# Altium integrated library Altium Database Library V2.IntLib: 412 symbols (part 15 of 18)

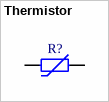
[diagram p322: symbol Thermistor]

## Thermistor
designator R?
SMT Resistor
pins: 1, 2


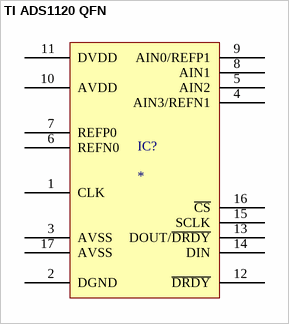
[diagram p323: symbol TI ADS1120 QFN]

## TI ADS1120 QFN
designator IC?
pins: 1 CLK, 2 DGND, 3 AVSS, 4 AIN3/REFN1, 5 AIN2, 6 REFN0, 7 REFP0, 8 AIN1, 9 AIN0/REFP1, 10 AVDD, 11 DVDD, 12 ~{DRDY}, 13 DOUT/~{DRDY}, 14 DIN, 15 SCLK, 16 ~{CS}, 17 AVSS


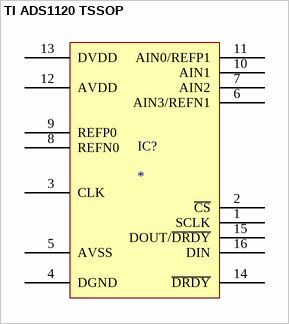
[diagram p324: symbol TI ADS1120 TSSOP]

## TI ADS1120 TSSOP
designator IC?
pins: 1 SCLK, 2 ~{CS}, 3 CLK, 4 DGND, 5 AVSS, 6 AIN3/REFN1, 7 AIN2, 8 REFN0, 9 REFP0, 10 AIN1, 11 AIN0/REFP1, 12 AVDD, 13 DVDD, 14 ~{DRDY}, 15 DOUT/~{DRDY}, 16 DIN


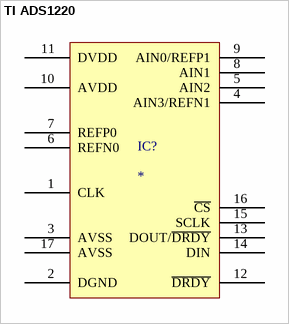
[diagram p325: symbol TI ADS1220]

## TI ADS1220
designator IC?
pins: 1 CLK, 2 DGND, 3 AVSS, 4 AIN3/REFN1, 5 AIN2, 6 REFN0, 7 REFP0, 8 AIN1, 9 AIN0/REFP1, 10 AVDD, 11 DVDD, 12 ~{DRDY}, 13 DOUT/~{DRDY}, 14 DIN, 15 SCLK, 16 ~{CS}, 17 AVSS


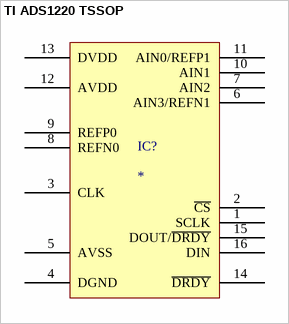
[diagram p326: symbol TI ADS1220 TSSOP]

## TI ADS1220 TSSOP
designator IC?
pins: 1 SCLK, 2 ~{CS}, 3 CLK, 4 DGND, 5 AVSS, 6 AIN3/REFN1, 7 AIN2, 8 REFN0, 9 REFP0, 10 AIN1, 11 AIN0/REFP1, 12 AVDD, 13 DVDD, 14 ~{DRDY}, 15 DOUT/~{DRDY}, 16 DIN


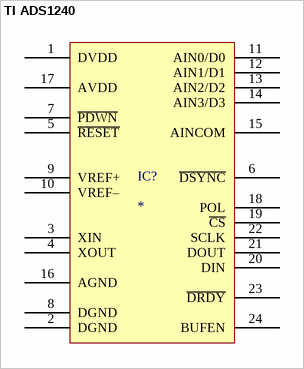
[diagram p327: symbol TI ADS1240]

## TI ADS1240
designator IC?
pins: 1 DVDD, 2 DGND, 3 XIN, 4 XOUT, 5 ~{RESET}, 6 ~{DSYNC}, 7 ~{PDWN}, 8 DGND, 9 VREF+, 10 VREF–, 11 AIN0/D0, 12 AIN1/D1, 13 AIN2/D2, 14 AIN3/D3, 15 AINCOM, 16 AGND, 17 AVDD, 18 POL, 19 ~{CS}, 20 DIN, 21 DOUT, 22 SCLK, 23 ~{DRDY}, 24 BUFEN


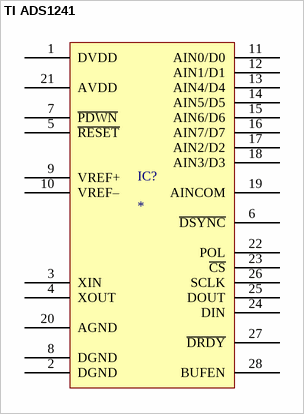
[diagram p328: symbol TI ADS1241]

## TI ADS1241
designator IC?
pins: 1 DVDD, 2 DGND, 3 XIN, 4 XOUT, 5 ~{RESET}, 6 ~{DSYNC}, 7 ~{PDWN}, 8 DGND, 9 VREF+, 10 VREF–, 11 AIN0/D0, 12 AIN1/D1, 13 AIN4/D4, 14 AIN5/D5, 15 AIN6/D6, 16 AIN7/D7, 17 AIN2/D2, 18 AIN3/D3, 19 AINCOM, 20 AGND, 21 AVDD, 22 POL, 23 ~{CS}, 24 DIN, 25 DOUT, 26 SCLK, 27 ~{DRDY}, 28 BUFEN


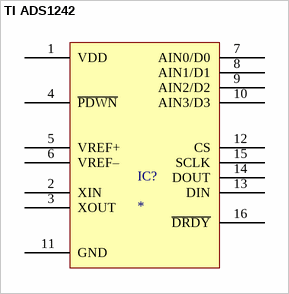
[diagram p329: symbol TI ADS1242]

## TI ADS1242
designator IC?
pins: 1 VDD, 2 XIN, 3 XOUT, 4 ~{PDWN}, 5 VREF+, 6 VREF–, 7 AIN0/D0, 8 AIN1/D1, 9 AIN2/D2, 10 AIN3/D3, 11 GND, 12 CS, 13 DIN, 14 DOUT, 15 SCLK, 16 ~{DRDY}


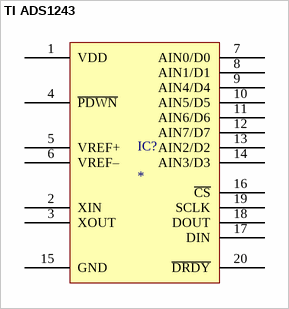
[diagram p330: symbol TI ADS1243]

## TI ADS1243
designator IC?
pins: 1 VDD, 2 XIN, 3 XOUT, 4 ~{PDWN}, 5 VREF+, 6 VREF–, 7 AIN0/D0, 8 AIN1/D1, 9 AIN4/D4, 10 AIN5/D5, 11 AIN6/D6, 12 AIN7/D7, 13 AIN2/D2, 14 AIN3/D3, 15 GND, 16 ~{CS}, 17 DIN, 18 DOUT, 19 SCLK, 20 ~{DRDY}


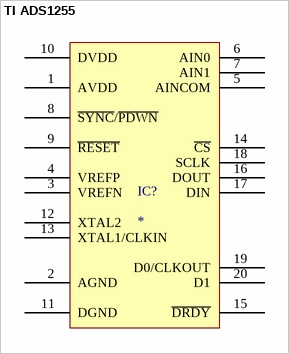
[diagram p331: symbol TI ADS1255]

## TI ADS1255
designator IC?
pins: 1 AVDD, 2 AGND, 3 VREFN, 4 VREFP, 5 AINCOM, 6 AIN0, 7 AIN1, 8 ~{SYNC}/~{PDWN}, 9 ~{RESET}, 10 DVDD, 11 DGND, 12 XTAL2, 13 XTAL1/CLKIN, 14 ~{CS}, 15 ~{DRDY}, 16 DOUT, 17 DIN, 18 SCLK, 19 D0/CLKOUT, 20 D1


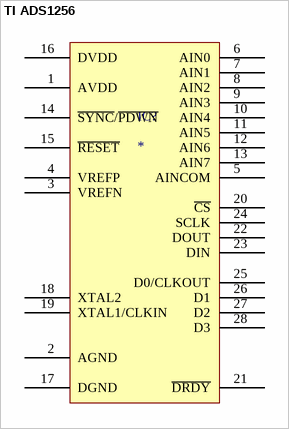
[diagram p332: symbol TI ADS1256]

## TI ADS1256
designator IC?
pins: 1 AVDD, 2 AGND, 3 VREFN, 4 VREFP, 5 AINCOM, 6 AIN0, 7 AIN1, 8 AIN2, 9 AIN3, 10 AIN4, 11 AIN5, 12 AIN6, 13 AIN7, 14 ~{SYNC}/~{PDWN}, 15 ~{RESET}, 16 DVDD, 17 DGND, 18 XTAL2, 19 XTAL1/CLKIN, 20 ~{CS}, 21 ~{DRDY}, 22 DOUT, 23 DIN, 24 SCLK, 25 D0/CLKOUT, 26 D1, 27 D2, 28 D3


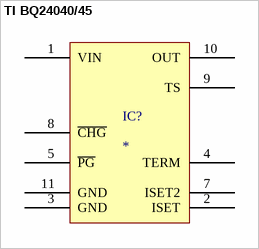
[diagram p333: symbol TI BQ24040/45]

## TI BQ24040/45
designator IC?
pins: 1 VIN, 2 ISET, 3 GND, 4 TERM, 5 ~{PG}, 7 ISET2, 8 ~{CHG}, 9 TS, 10 OUT, 11 GND


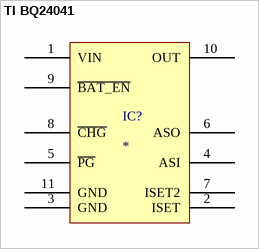
[diagram p334: symbol TI BQ24041]

## TI BQ24041
designator IC?
pins: 1 VIN, 2 ISET, 3 GND, 4 ASI, 5 ~{PG}, 6 ASO, 7 ISET2, 8 ~{CHG}, 9 ~{BAT_EN}, 10 OUT, 11 GND


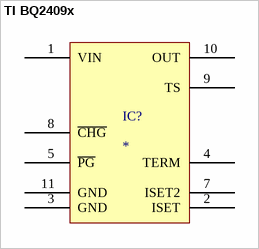
[diagram p335: symbol TI BQ2409x]

## TI BQ2409x
designator IC?
pins: 1 VIN, 2 ISET, 3 GND, 4 TERM, 5 ~{PG}, 7 ISET2, 8 ~{CHG}, 9 TS, 10 OUT, 11 GND


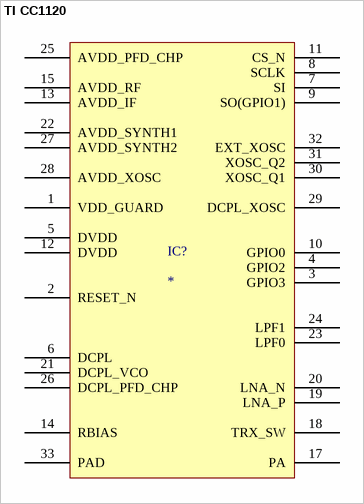
[diagram p336: symbol TI CC1120]

## TI CC1120
designator IC?
pins: 1 VDD_GUARD, 2 RESET_N, 3 GPIO3, 4 GPIO2, 5 DVDD, 6 DCPL, 7 SI, 8 SCLK, 9 SO(GPIO1), 10 GPIO0, 11 CS_N, 12 DVDD, 13 AVDD_IF, 14 RBIAS, 15 AVDD_RF, 17 PA, 18 TRX_SW, 19 LNA_P, 20 LNA_N, 21 DCPL_VCO, 22 AVDD_SYNTH1, 23 LPF0, 24 LPF1, 25 AVDD_PFD_CHP, 26 DCPL_PFD_CHP, 27 AVDD_SYNTH2, 28 AVDD_XOSC, 29 DCPL_XOSC, 30 XOSC_Q1, 31 XOSC_Q2, 32 EXT_XOSC, 33 PAD


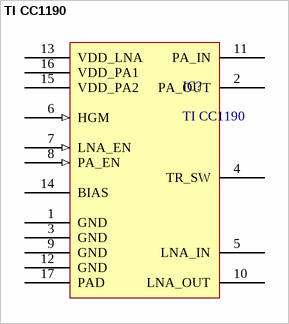
[diagram p337: symbol TI CC1190]

## TI CC1190
designator IC?
850-950MHz RF Front end
pins: 1 GND "Desc1", 2 PA_OUT "Desc1", 3 GND "Desc1", 4 TR_SW "Desc1", 5 LNA_IN "Desc1", 6 HGM (in) "Desc1", 7 LNA_EN (in) "Desc1", 8 PA_EN (in) "Desc1", 9 GND "Desc1", 10 LNA_OUT "Desc1", 11 PA_IN "Desc1", 12 GND "Desc1", 13 VDD_LNA "Desc1", 14 BIAS "Desc1", 15 VDD_PA2 "Desc1", 16 VDD_PA1 "Desc1", 17 PAD "Desc1"


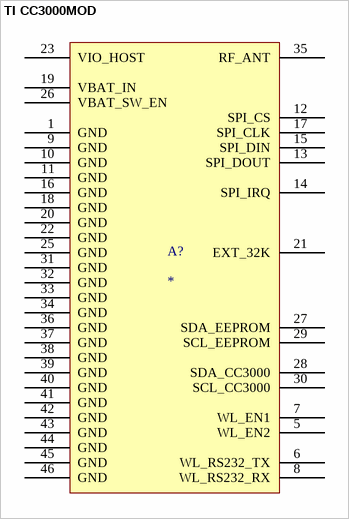
[diagram p338: symbol TI CC3000MOD]

## TI CC3000MOD
designator A?
pins: 1 GND, 5 WL_EN2, 6 WL_RS232_TX, 7 WL_EN1, 8 WL_RS232_RX, 9 GND, 10 GND, 11 GND, 12 SPI_CS, 13 SPI_DOUT, 14 SPI_IRQ, 15 SPI_DIN, 16 GND, 17 SPI_CLK, 18 GND, 19 VBAT_IN, 20 GND, 21 EXT_32K, 22 GND, 23 VIO_HOST, 25 GND, 26 VBAT_SW_EN, 27 SDA_EEPROM, 28 SDA_CC3000, 29 SCL_EEPROM, 30 SCL_CC3000, 31 GND, 32 GND, 33 GND, 34 GND, 35 RF_ANT, 36 GND, 37 GND, 38 GND, 39 GND, 40 GND, 41 GND, 42 GND, 43 GND, 44 GND, 45 GND, 46 GND, GND 40 hidden to Passive


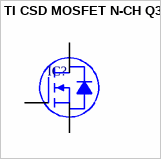
[diagram p339: symbol TI CSD MOSFET N-CH Q3]

## TI CSD MOSFET N-CH Q3
designator IC?
pins: 1 S, 2 S, 3 S, 4 G, 5 D, 6 D, 7 D, 8 D


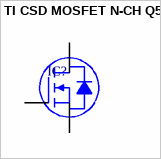
[diagram p340: symbol TI CSD MOSFET N-CH Q5]

## TI CSD MOSFET N-CH Q5
designator IC?
pins: 1 S, 2 S, 3 S, 4 G, 5 D, 6 D, 7 D, 8 D


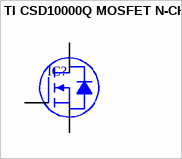
[diagram p341: symbol TI CSD10000Q MOSFET N-CH]

## TI CSD10000Q MOSFET N-CH
designator IC?
pins: 1 S, 2 S, 3 S, 4 G, 5 D, 6 D, 7 D, 8 D


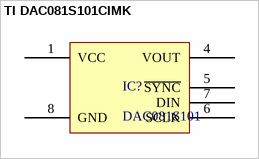
[diagram p342: symbol TI DAC081S101CIMK]

## TI DAC081S101CIMK
designator IC?, comment DAC081S101
DAC081S101 8-Bit Micro Power Digital-to-Analog Converter with Rail-to-Rail Output
pins: 1 VCC, 4 VOUT, 5 ~{SYNC}, 6 SCLK, 7 DIN, 8 GND


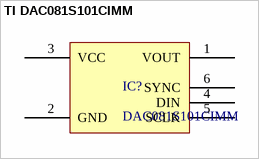
[diagram p343: symbol TI DAC081S101CIMM]

## TI DAC081S101CIMM
designator IC?, comment DAC081S101CIMM
DAC081S101 8-Bit Micro Power Digital-to-Analog Converter with Rail-to-Rail Output
pins: 1 VOUT, 2 GND, 3 VCC, 4 DIN, 5 SCLK, 6 SYNC


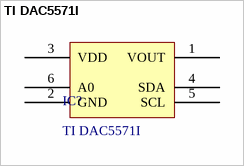
[diagram p344: symbol TI DAC5571I]

## TI DAC5571I
designator IC?
+2.7 V to +5.5 V, I2C INTERFACE, VOLTAGE OUTPUT,  8-BIT DIGITAL-TO-ANALOG CONVERTER
pins: 1 VOUT, 2 GND, 3 VDD, 4 SDA, 5 SCL, 6 A0
